# Altium footprint library WR-TBL_Rising Cage Clamp_5.08mm.PcbLib: 81 footprints (part 6 of 6)
Each footprint in its own frame and in the unit in brackets; x right, y up, seen from the top. Pads: shape width x height; smd on the part's side, far side on the other; paste and mask are expansions set on the pad; w line width, h text height; cw(c..) or ccw(c..) is an arc to the next point about the centre after c.
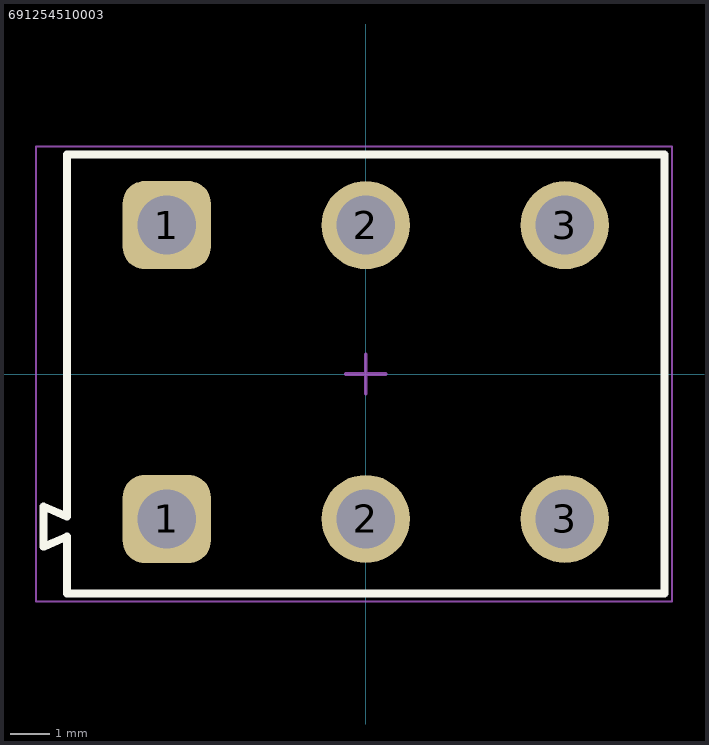
[diagram p5: the footprint, top view; thin cyan lines are the x and y axes]

## 691254510003 [mm] "Serie 2545-5.08mm Horizontal Cable Entry with Rising Cage Clamp, 3 pins"
height 18
pads (6):
  rrect50% 2.25x2.25 hole 1.5: 1(-5.08,-3.7) 1(-5.08,3.8)
  round 2.25 hole 1.5: 2(0,-3.7) 2(0,3.8) 3(5.08,-3.7) 3(5.08,3.8)
Top Overlay:
  lines w0.2: -7.62,-5.6 -7.62,-4.15 -8.22,-4.41 -8.22,-3.38 -7.62,-3.64 -7.62,5.6 7.62,5.6 7.62,-5.6 -7.62,-5.6
Top Assembly:
  lines w0.1: -7.62,-5.6 -7.62,-4.15 -8.22,-4.41 -8.22,-3.38 -7.62,-3.64 -7.62,5.6 7.62,5.6 7.62,-5.6 -7.62,-5.6
Top Designator:
  text ".Designator" at -3.647,-0.357 h1
Top 3D Body:
  lines w0.1: -7.62,-5.6 -7.62,-4.15 -8.22,-4.41 -8.22,-3.38 -7.62,-3.64 -7.62,5.6 7.62,5.6 7.62,-5.6 -7.62,-5.6
Top Courtyard:
  lines w0.05: -8.42,-5.8 -8.42,5.8 7.82,5.8 7.82,-5.8 -8.42,-5.8
Top Component Center:
  lines w0.1: -0.5,0 0.5,0 ; 0,-0.5 0,0.5
3D body "691254510003.stp": height 18.1, standoff -3.4, extent -8.22,-5.6 7.62,5.6